# Altium schematic symbol library Schlib1.SchLib: 3 symbols
Pins are listed as number, name and electrical type; pins without a type are passive.

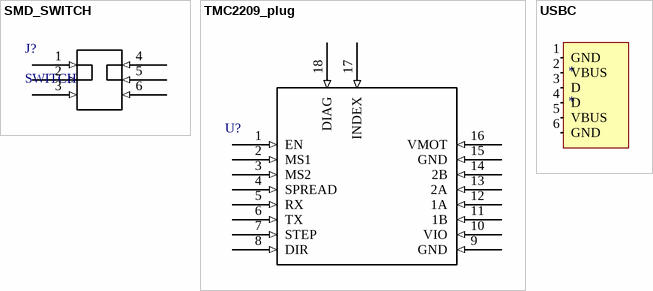
[diagram p0: symbols SMD_SWITCH to USBC]

## SMD_SWITCH
designator J?, comment SWITCH
footprint PCBComponent_1
pins: 1 (in), 2 (in), 3 (in), 4 (in), 5 (in), 6 (in)

## TMC2209_plug
designator U?, comment TMC2209  (value not drawn)
footprint TCM2209_breakout
pins: 1 EN (in), 2 MS1 (in), 3 MS2 (in), 4 SPREAD (in), 5 RX (in), 6 TX (in), 7 STEP (in), 8 DIR (in), 9 GND (in), 10 VIO (in), 11 1B (in), 12 1A (in), 13 2A (in), 14 2B (in), 15 GND (in), 16 VMOT (in), 17 INDEX (in), 18 DIAG (in)

## USBC
designator *
pins: 1 GND, 2 VBUS, 3 D, 4 D, 5 VBUS, 6 GND